# EAGLE library part SY10EP05V (library yapo)
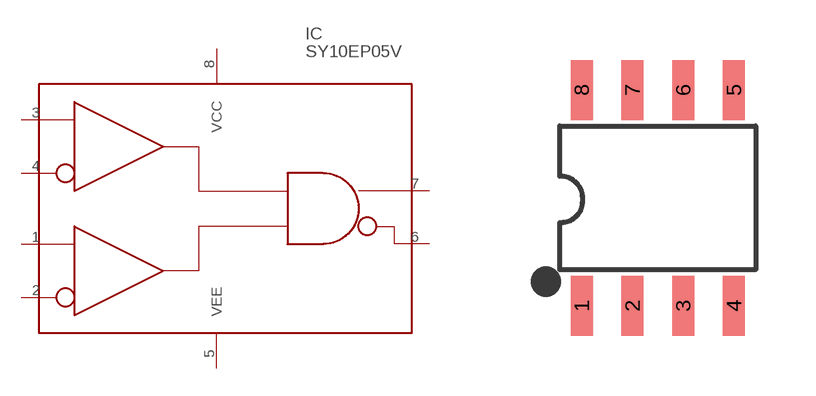
[diagram p40: symbol with the pads of SOIC8; footprint SOIC8]

Designator prefix IC

## SY10EP05V  [SOIC8]
1  D0
2  !D0!
3  D1
4  !D1!
5  VEE
6  !Q!
7  Q
8  VCC

## Footprint SOIC8 (pad centres in mm)
smd 0.55 x 1.5: 1 -1.905,-2.7; 2 -0.635,-2.7; 3 0.635,-2.7; 4 1.905,-2.7; 5 1.905,2.7; 6 0.635,2.7; 7 -0.635,2.7; 8 -1.905,2.7